# Altium schematic symbol library eLFL_Particle_Breakout.SCHLIB: 2 symbols
Pins are listed as number, name and electrical type; pins without a type are passive.

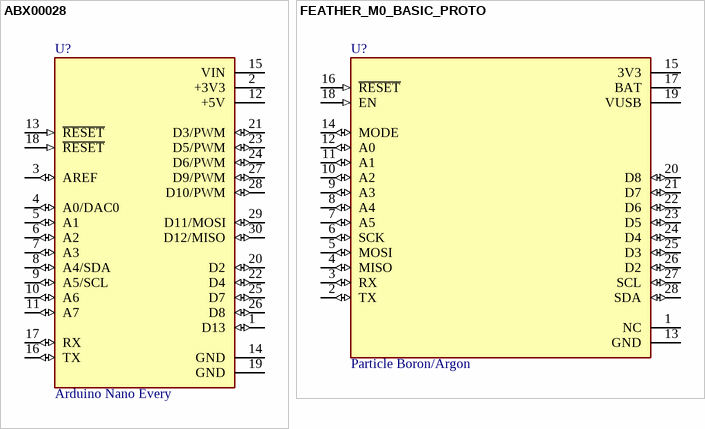
[diagram p0: symbols ABX00028 to FEATHER_M0_BASIC_PROTO]

## ABX00028
designator U?, comment Arduino Nano Every
ATmega4809 Arduino Nano Every AVR AVR MCU 8-Bit Embedded Evaluation Board; MP: ABX00028; MF: {'manufacturer': u'Arduino'}; Package: None; Value: *; Availability: Unavailable; Price: None
footprint MODULE_ABX00028
pins: 1 D13 (io), 2 +3V3 (power), 3 AREF (io), 4 A0/DAC0 (io), 5 A1 (io), 6 A2 (io), 7 A3 (io), 8 A4/SDA (io), 9 A5/SCL (io), 10 A6 (io), 11 A7 (io), 12 +5V (power), 13 ~{RESET} (in), 14 GND (power), 15 VIN (power), 16 TX (io), 17 RX (io), 18 ~{RESET} (in), 19 GND (power), 20 D2 (io), 21 D3/PWM (io), 22 D4 (io), 23 D5/PWM (io), 24 D6/PWM (io), 25 D7 (io), 26 D8 (io), 27 D9/PWM (io), 28 D10/PWM (io), 29 D11/MOSI (io), 30 D12/MISO (io)

## FEATHER_M0_BASIC_PROTO
designator U?, comment Particle Boron/Argon
ATSAMD21G18 Feather M0 Basic Proto SAM D ARMÂ® CortexÂ®-M0+ MCU 32-Bit Embedded Evaluation Board; MP: FEATHER_M0_BASIC_PROTO; MF: {'manufacturer': u'Adafruit Industries'}; Package: None; Value: *; Availability: Unavailable; Price: None
footprint MODULE_FEATHER_M0_BASIC_PROTO
pins: 1 NC (power), 2 TX (io), 3 RX (io), 4 MISO (io), 5 MOSI (io), 6 SCK (io), 7 A5 (io), 8 A4 (io), 9 A3 (io), 10 A2 (io), 11 A1 (io), 12 A0 (io), 13 GND (power), 14 MODE (io), 15 3V3 (power), 16 ~{RESET} (in), 17 BAT (power), 18 EN (in), 19 VUSB (power), 20 D8 (io), 21 D7 (io), 22 D6 (io), 23 D5 (io), 24 D4 (io), 25 D3 (io), 26 D2 (io), 27 SCL (io), 28 SDA (io)